# Altium schematic symbol library PCB.SCHLIB: 16 symbols
Pins are listed as number, name and electrical type; pins without a type are passive.

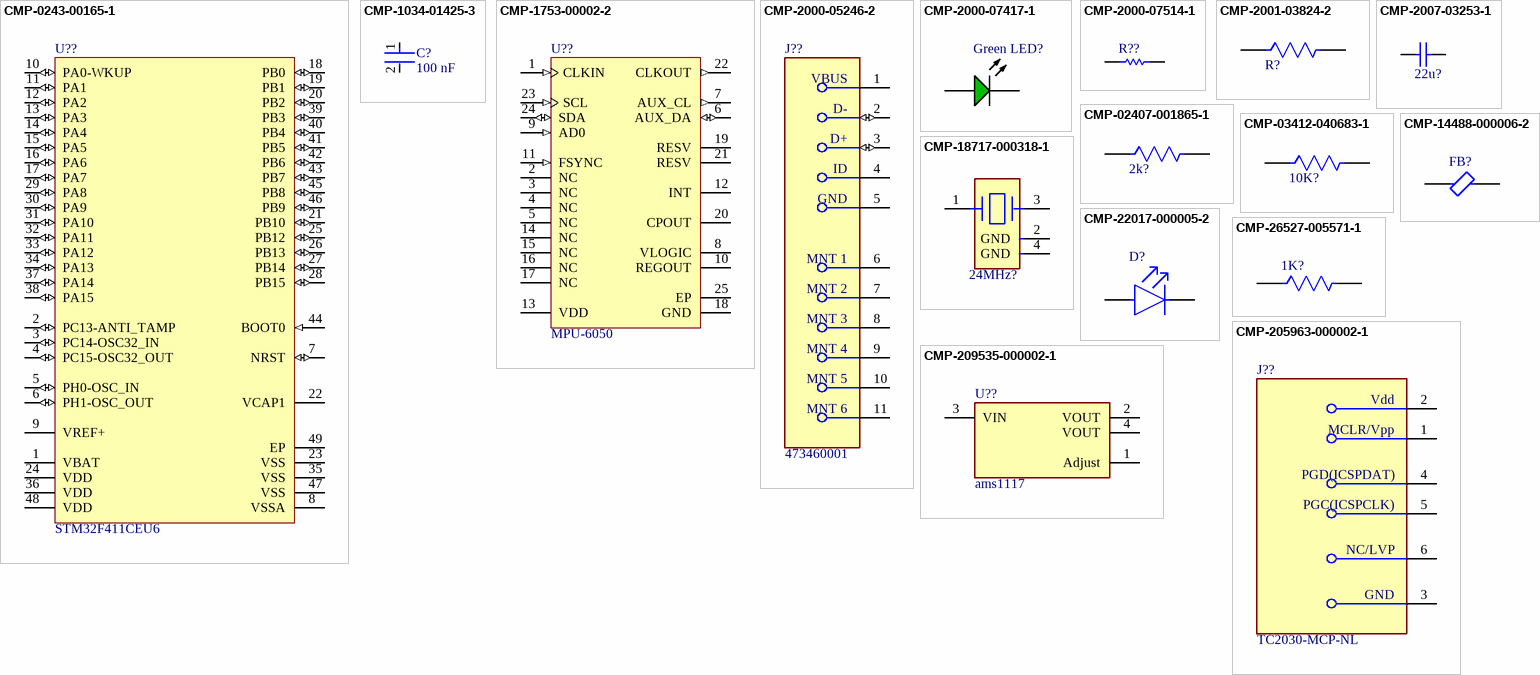
[diagram p0: symbols CMP-0243-00165-1 to CMP-209535-000002-1]

## CMP-0243-00165-1
designator U??, comment STM32F411CEU6
ARM Cortex-M4 32-bit MCU+FPU, 512 KB Flash, 128 KB RAM, 36 I/Os, 48-Pin UFQFPN, -40 to 85 degC, Tray; Operating Frequency(F) (Processor speed) (MHz): 100; FLASH Size (Prog) (kB): 512; Internal RAM Size (kB): 128; I/Os (High Current): 36; Supply Voltage(Vcc) min (V): 1.7; Package Reference: 48-Pin Ultra Thin Fine Pitch Quad Flat No-Lead, 7 x 7 x 0.6 mm Body, 0.5 mm Pitch, Exposed Pad; ComponentLink1Description: Manufacturer URL; ComponentLink1URL: http://www.st.com/; Packing: Tray; Package Description: UFQFPN48; Core: ARM Cortex-M4; ComponentLink2Description: Datasheet; ComponentLink2URL: http://www.st.com/st-web-ui/static/active/en/resource/technical/document/datasheet/DM00115249.pdf; DatasheetVersion: Rev. 6; Mounting Technology: Surface Mount
footprint STM-UFQFPN48_L (QFN, 48-Leads, Body 7.1x7.1mm, Pitch 0.5mm, Thermal Pad 5.6x5.6mm, IPC High Density)
footprint STM-UFQFPN48_M (QFN, 48-Leads, Body 7.1x7.1mm, Pitch 0.5mm, Thermal Pad 5.6x5.6mm, IPC Low Density)
footprint STM-UFQFPN48_N (QFN, 48-Leads, Body 7.1x7.1mm, Pitch 0.5mm, Thermal Pad 5.6x5.6mm, IPC Medium Density)
pins: 1 VBAT (power), 2 PC13-ANTI_TAMP (io) "PC13-ANTI_TAMP/RTC_AMP1,RTC_OUT,RTC_TS", 3 PC14-OSC32_IN (io) "PC14-OSC32_IN/OSC32_IN", 4 PC15-OSC32_OUT (io) "PC15-OSC32_OUT/OSC32_OUT", 5 PH0-OSC_IN (io) "PH0-OSC_IN/OSC_IN", 6 PH1-OSC_OUT (io) "PH1-OSC_OUT/OSC_OUT", 7 NRST (io) "NRST/EVENTOUT", 8 VSSA (power), 9 VREF+ (power), 10 PA0-WKUP (io) "PA0-WKUP/TIM2_CH1/TIM2_ET,TIM5_CH1,USART2_CTS,EVENTOUT/ADC1_0,WKUP1", 11 PA1 (io) "PA1/TIM2_CH2,TIM5_CH2,SPI4_MOSI/I2S4_SD,USART2_RTS,EVENTOUT/ADC1_1", 12 PA2 (io) "PA2/TIM2_CH3,TIM5_CH3,TIM9_CH1,I2S2_CKIN,USART2_TX,EVENTOUT/ADC1_2", 13 PA3 (io) "PA3/TIM2_CH4,TIM5_CH4,TIM9_CH2,I2S2_MCK,USART2_RX,EVENTOUT/ADC1_3", 14 PA4 (io) "PA4/SPI1_NSS/I2S1_WS,SPI3_NSS/I2S3_WS,USART2_CK,EVENTOUT/ADC1_4", 15 PA5 (io) "PA5/TIM2_CH1/TIM2_ET,SPI1_SCK/I2S1_CK,EVENTOUT/ADC1_5", 16 PA6 (io) "PA6/TIM1_BKIN,TIM3_CH1,SPI1_MISO,I2S2_MCK,SDIO_CMD,EVENTOUT/ADC1_6", 17 PA7 (io) "PA7/TIM1_CH1N,TIM3_CH2,SPI1_MOSI/I2S1_SD,EVENTOUT/ADC1_7", 18 PB0 (io) "PB0/TIM1_CH2N,TIM3_CH3,SPI5_SCK/I2S5_CK,EVENTOUT/ADC1_8", 19 PB1 (io) "PB1/TIM1_CH3N,TIM3_CH4,SPI5_NSS/I2S5_WS,EVENTOUT/ADC1_9", 20 PB2 (io) "PB2/EVENTOUT/BOOT1", 21 PB10 (io) "PB10/TIM2_CH3,I2C2_SCL,SPI2_SCK/I2S2_CK,I2S3_MCK,SDIO_D7,EVENTOUT", 22 VCAP1, 23 VSS (power), 24 VDD (power), 25 PB12 (io) "PB12/TIM1_BKIN,I2C2_SMBA,SPI2_NSS/I2S2_WS,SPI4_NSS/I2S4_WS,SPI3_SCK/I2S3_CK,EVENTOUT", 26 PB13 (io) "PB13/TIM1_CH1N,SPI2_SCK/I2S2_CK,SPI4_SCK/I2S4_CK,EVENTOUT", 27 PB14 (io) "PB14/TIM1_CH2N,SPI2_MISO,I2S2EXT_SD,SDIO_D6,EVENTOUT", 28 PB15 (io) "PB15/RTC_50HZ,TIM1_CH3N,SPI2_MOSI/I2S2_SD,SDIO_CK,EVENTOUT/RTC_REFIN", 29 PA8 (io) "PA8/MCO_1,TIM1_CH1,I2C3_SCL,USART1_CK,USB_FS_SOF,SDIO_D1,EVENTOUT", 30 PA9 (io) "PA9/TIM1_CH2,I2C3_SMBA,USART1_TX,USB_FS_VBUS,SDIO_D2,EVENTOUT/OTG_FS_VBUS", 31 PA10 (io) "PA10/TIM1_CH3,SPI5_MOSI/I2S5_SD,USART1_RX,USB_FS_ID,EVENTOUT", 32 PA11 (io) "PA11/TIM1_CH4,SPI4_MISO,USART1_CTS,USART6_TX,USB_FS_DM,EVENTOUT", 33 PA12 (io) "PA12/TIM1_ETR,SPI5_MISO,USART1_RTS,USART6_RX,USB_FS_DP,EVENTOUT", 34 PA13 (io) "PA13/JTMS-SWDIO,EVENTOUT", 35 VSS (power), 36 VDD (power), 37 PA14 (io) "PA14/JTCK-SWCLK,EVENTOUT", 38 PA15 (io) "PA15/JTDI,TIM2_CH1/TIM2_ETR,SPI1_NSS/I2S1_WS,SPI3_NSS/I2S3_WS,USART1_TX,EVENTOUT", 39 PB3 (io) "PB3/JTDO-SWO,TIM2_CH2,SPI1_SCK/I2S1_CK,SPI3_SCK/I2S3_CK,USART1_RX,I2C2_SDA,EVENTOUT", 40 PB4 (io) "PB4/JTRST,TIM3_CH1,SPI1_MISO,SPI3_MISO,I2S3EXT_SD,I2C3_SDA,SDIO_D0,EVENTOUT", 41 PB5 (io) "PB5/TIM3_CH2,I2C1_SMBA,SPI1_MOSI/I2S1_SD,SPI3_MOSI/I2S3_SD,SDIO_D3,EVENTOUT", 42 PB6 (io) "PB6/TIM4_CH1,I2C1_SCL,USART1_TX,EVENTOUT", 43 PB7 (io) "PB7/TIM4_CH2,I2C1_SDA,USART1_RX,SDIO_D0,EVENTOUT", 44 BOOT0 (in) "BOOT0/VPP", 45 PB8 (io) "PB8/TIM4_CH3,TIM10_CH1,I2C1_SCL,SPI5_MOSI/I2S5_SD,I2C3_SDA,SDIO_D4,EVENTOUT", 46 PB9 (io) "PB9/TIM4_CH4,TIM11_CH1,I2C1_SDA,SPI2_NSS/I2S2_WS,I2C2_SDA,SDIO_D5,EVENTOUT", 47 VSS (power), 48 VDD (power), 49 EP (power)

## CMP-1034-01425-3
designator C?, comment 100 nF
Capacitor, Ceramic, 330Pf, 16Vdc, 10-% Tol, 10+% Tol, X7r-Tc Code, -15, 15%-Tc Rohs Compliant: Yes; Manufacturer Part Number: C0402C331K4RACTU; Manufacturer: Kemet; Voltage Rating: 16 V; Temperature Characteristic: X7R; Tolerance: 0.1; Temperature Coefficient: 15%; Description: C0402 330 pF X7R 10.00% 16 V; Category: Cap; ComponentLink2Description: Datasheet; Lead Free: Yes; Mouser Description: Multilayer Ceramic Capacitors MLCC - SMD/SMT 16volts 330pF X7R 10%; Capacitance: 100 nF; Ipc Land Pattern Name: CAPC10050X50; Temperature Range High: +125°C; Temperature: -55°C to +125°C; Digikey Description: Capacitor, Ceramic, 330Pf, 16Vdc, 10-% Tol, 10+% Tol, X7r-Tc Code, -15, 15%-Tc Rohs Compliant: Yes; Automotive: No; Package: C0402-BB; Height: 0.55mm; Material: Ceramic; ComponentLink2URL: https://content.kemet.com/datasheets/KEM_C1002_X7R_SMD.pdf; Device Class L1: Passive Components; Temperature Range Low: -55°C; Value: 100 nF; Device Class L3: Ceramic Capacitors; Device Class L2: Capacitors; Octopart: https://octopart.com/c0402c331k4ractu-kemet-9139363; RoHS: TRUE; Parameter 1: *
footprint FP-C0402-BB-MFG
footprint FP-C0402-BB-IPC_C
footprint FP-C0402-BB-IPC_B
footprint FP-C0402-BB-IPC_A
pins: 1, 2

## CMP-1753-00002-2
designator U??, comment MPU-6050
3-Axis Gyroscope, Accelerometer and a Digital Motion Processor(TM) (DMP), 2.375 to 3.46 V, -40 to 85 degC, 24-Pin QFN, RoHS, Tape and Reel; Manufacturer: InvenSense; Featured Product: MPU-60506-Axis,IntegratedI²CSolution; Other Names: 1428-1007-2 / MPU6050; Sensor Type: MotionTracking; Online Catalog: MPU-6000™Series; Unit PriceUSD: Digital; Datasheet Version: Rev. 3.3, 05/2012; Category: Sensors,Transducers; Datasheet URL: http://datasheet.octopart.com/MPU-6050-InvenSense-datasheet-14421344.pdf; Family: Multifunction; Standard Package: 5,000; Manufacturer URL: http://www.invensense.com/; Output Type: Digital; Dynamic Catalog: MPU-6000™Series
footprint IS-QFN-24_V (QFN, 24-Leads, Body 4x4mm, Pitch 0.5mm, Thermal Pad 2.7x2.6mm)
pins: 1 CLKIN (in) "Optional external reference clock input. Connect to GND if unused.", 2 NC "Not internally connected. May be used for PCB trace routing", 3 NC "Not internally connected. May be used for PCB trace routing", 4 NC "Not internally connected. May be used for PCB trace routing", 5 NC "Not internally connected. May be used for PCB trace routing", 6 AUX_DA (io) "I2C master serial data, for connecting to external sensors", 7 AUX_CL (out) "I2C Master serial clock, for connecting to external sensors", 8 VLOGIC (power) "Digital I/O supply voltage", 9 AD0 (in) "I2C Slave Address LSB (AD0)", 10 REGOUT "Regulator filter capacitor connection", 11 FSYNC (in) "Frame synchronization digital input. Connect to GND if unused.", 12 INT (oc) "Interrupt digital output (totem pole or open-drain)", 13 VDD (power) "Power supply voltage and Digital I/O supply voltage", 14 NC "Not internally connected. May be used for PCB trace routing", 15 NC "Not internally connected. May be used for PCB trace routing", 16 NC "Not internally connected. May be used for PCB trace routing", 17 NC "Not internally connected. May be used for PCB trace routing", 18 GND (power) "Power supply ground", 19 RESV "Reserved. Do not connect", 20 CPOUT "Charge pump capacitor connection", 21 RESV "Reserved. Do not connect", 22 CLKOUT (out) "System clock output", 23 SCL (in) "System clock output  I2C serial clock (SCL)", 24 SDA (io) "I2C serial data (SDA)", 25 EP (power) "Exposed Pad"

## CMP-2000-05246-2
designator J??, comment 473460001
CONN RCPT USB2.0 MICRO B SMD R/A; Manufacturer: Molex; Conn Orientation: Right Angle; Is Female: yes; Shielding: true; Pitch: 0.65mm; Number Of Contacts: 5; Description: USB - micro B USB 2.0 Receptacle Connector 5 Position Surface Mount, Right Angle; Voltage Rating: 30V; Current Rating: 1.8A; Device Class L2: USB Connectors; Digikey Description: CONN RCPT USB2.0 MICRO B SMD R/A; Height: 2.945mm; RoHS: TRUE; ComponentLink2Description: Datasheet; Octopart: https://octopart.com/47346-0001-molex-7164928; Automotive: No; Package: 0; Category: Conn; Device Class L1: Connectors; Usb Standard: USB 2.0; Temperature: -30°C to +85°C; Temperature Range Low: -30°C; Footprint Url: https://www.molex.com/pdm_docs/sd/473460001_sd.pdf; ComponentLink2URL: https://www.molex.com/webdocs/datasheets/pdf/en-us/0473460001_IO_CONNECTORS.pdf; Lead Free: Yes; Manufacturer Part Number: 473460001; Contact Material: Gold,Nickel; Temperature Range High: +85°C; Device Class L3: unset
footprint FP-473460001-MFG
pins: 1 VBUS (power), 2 D- (io), 3 D+ (io), 4 ID, 5 GND (power), 6 MNT 1, 7 MNT 2, 8 MNT 3, 9 MNT 4, 10 MNT 5, 11 MNT 6

## CMP-2000-07417-1
designator Green LED?, comment WP934CB/GD  (value not drawn)
Right Angle LED Indicator, 62.5 mW, 25 mA, -40 to 85 degC, 2-Pin THD, RoHS, Bulk; Manufacturer: Kingbright; Voltage Rating: 2.2V; Configuration: Single; Other Names: 754-1297 / WP934CBGD; Lens Style/Size: RoundwithDomedTop,3mm; Catalog Drawings: WP934CBSeriesFront / WP934CBSeriesSide; Millicandela Rating: 22.5mcd; Minimum Quantity: Green; 3D Model: WP934CB/x.sldprt / WP934CB/x.pro / WP934CB/x.igs / WP934CB/x.stp; Wavelength - Peak: 568nm; Lens Type: Diffused,Tinted; Dynamic Catalog: SingleLevel3mm(T1)SingleColorRightAngleLEDs; Viewing Angle: 40°; Current: 20mA; Packaging: Bulk; Package Reference: WP934CBGD; Datasheet Version: Rev. 10B, 09/2016; Family: LEDs-CircuitBoardIndicators,Arrays,LightBars,BarGraphs; Manufacturer URL: http://www.kingbright.com/; Standard Package: 500; Mounting Technology: ThroughHole; Quantity Available: Bulk; Category: Optoelectronics; Color: Green; Package Description: 2-Pin Through Hole Device, Body 4.6 x 8.75 mm; Mounting Type: ThroughHole,RightAngle; Datasheet URL: http://www.kingbrightusa.com/images/catalog/SPEC/WP934CB-GD.pdf
footprint KING-WP934CBGD_V (THD, 2-Leads, Body 4.6x8.75mm)
pins: 1 K, 2 A

## CMP-2000-07514-1
designator R??, comment CRG0805ZR  (value not drawn)
Chip Resistor, 0 Ohm, 0.125 W, -55 to 125 degC, 0805 (2012 Metric), RoHS, Tape and Reel; Manufacturer: TE Connectivity; Power Rating: 125mW; Voltage Rating: 150V; Tolerance: 0%; Case\/Package: 0805; Number of Resistors: 1; Resistance: 0mOhm; Datasheet URL: www.te.com/commerce/DocumentDelivery/DDEController?Action=showdoc&DocId=Customer+Drawing%7F1623401%7FBA%7Fpdf%7FEnglish%7FENG_CD_1623401_BA.pdf%7F1623401-1; Composition: ThickFilm; Max Operating Temperature: 125degC; Min Operating Temperature: -55degC; ELV: Compliant; Case Code (Metric): 2012; Number of Terminations: 2; Weight: 0.000194oz; Length: 2mm; Mount: SurfaceMount; Packaging: TapeandReel; Case Code (Imperial): 0805; RoHSCompliant: true; Width: 1.25mm; Radiation Hardening: No; Termination: Solder; Manufacturer URL: http://www.te.com/; Package Description: 2-Pin Surface Mount Device, Body 2 x 1.25 mm; Mounting Technology: SurfaceMount; Height: 0.55mm; Package Quantity: 5000; Package Reference: RESC2013X65X40L15T20; Datasheet Version: Rev. BA, 12/2009; Depth: 1.25mm
footprint RESC2013X65X40LL15T20 (Chip Resistor, 2-Leads, Body 2.00x1.30mm, IPC High Density)
footprint RESC2013X65X40ML15T20 (Chip Resistor, 2-Leads, Body 2.00x1.30mm, IPC Low Density)
footprint RESC2013X65X40NL15T20 (Chip Resistor, 2-Leads, Body 2.00x1.30mm, IPC Medium Density)
pins: 1, 2

## CMP-2001-03824-2
designator R?, comment CRCW0805330RJNEA  (value not drawn)
RES Thick Film, 330Ω, 5%, 0.125W, 200ppm/°C, 0805; Power Rating: 125mW; Voltage Rating (DC): 150V; Resistance: 330R; Case Code (Imperial): 0805; Temperature Coefficient: 200ppm/°C; Military Standard: Not; Tolerance: 5%; Max Power Dissipation: 125mW; Composition: Thick Film; Height: 0.02inch; Depth: 1.25mm; Termination: SMD/SMT; Voltage Rating: 150V; Max Operating Temperature: 155°C; Min Operating Temperature: -55°C; Number of Terminations: 2; Packaging: Tape and Reel; Radiation Hardening: No; Case/Package: 0805; Lead Free: Lead Free; Package Quantity: 1; Contact Plating: Tin; Length: 2mm; Case Code (Metric): 2012; Features: Automotive AEC-Q200; Weight: 0.000194oz; Width: 0.049inch
footprint FP-CRCW0805-e3-IPC_C
footprint FP-CRCW0805-e3-MFG
footprint FP-CRCW0805-e3-IPC_B
footprint FP-CRCW0805-e3-IPC_A
pins: 1, 2

## CMP-2007-03253-1
designator 22u?, comment C0805C185K4RACTU  (value not drawn)
Manufacturer: Kemet; Part Number: C0805C185K4RACTU
footprint CAPC2013X140X50NL20T25 (Chip Capacitor, 2-Leads, Body 2.00x1.25mm, IPC Medium Density)
footprint CAPC2013X140X50ML20T25 (Chip Capacitor, 2-Leads, Body 2.00x1.25mm, IPC Low Density)
footprint CAPC2013X140X50LL20T25 (Chip Capacitor, 2-Leads, Body 2.00x1.25mm, IPC High Density)
pins: 1, 2
1 alternate drawing of the same symbol

## CMP-02407-001865-1
designator 2k?, comment MCU08050D2201BP500  (value not drawn)
RES 1.05K OHM 0.5% 1/5W 0805; Resistance: 2.2kR; Tolerance: 0.1%; Temperature Coefficient: 25ppm/°C; Max Power Dissipation: 125mW; Package Quantity: 5000; Packaging: Tape and Reel; Min Operating Temperature: -55°C; Military Standard: Not; Number of Terminations: 2; Max Operating Temperature: 125°C; Height: 0.022inch; Depth: 1.25mm; Composition: Thin Film; Width: 0.049inch; Case/Package: 0805; Length: 0.079inch; Lead Free: Lead Free
footprint FP-MCU0805-MFG
footprint FP-MCU0805-IPC_B
footprint FP-MCU0805-IPC_A
footprint FP-MCU0805-IPC_C
pins: 1, 2

## CMP-03412-040683-1
designator 10K?, comment AC0603JR-7W10KL  (value not drawn)
RES 10kΩ 5.00% 0.2W 0603
footprint FP-AC0603-IPC_A
footprint FP-AC0603-MFG
footprint FP-AC0603-IPC_C
footprint FP-AC0603-IPC_B
pins: 1, 2

## CMP-14488-000006-2
designator FB?, comment FBMH1608HM101-TV  (value not drawn)
None; Max Current Rating: 2.5A; DC Resistance (DCR): 35mR; Number of Lines: 1; Tolerance: 25%; Impedance: 100R; Test Frequency: 100MHz; Core Material: Ferrite; Max DC Current: 2A; Case Code (Metric): 1608; RoHS Compliant: Yes; Weight: 7.1E-05oz; Height: 0.8mm; Mount: Surface Mount; Ratings: AEC-Q200; Width: 0.031inch; Length: 0.063inch; Package Quantity: 4000; Termination: SMD/SMT; Case/Package: 0603; Packaging: Tape and Reel; Max Operating Temperature: 125°C; Case Code (Imperial): 0603; Min Operating Temperature: -40°C
footprint FP-FBMH1608-IPC_A
footprint FP-FBMH1608-IPC_B
footprint FP-FBMH1608-IPC_C
footprint FP-FBMH1608-MFG
pins: 1, 2

## CMP-18717-000318-1
designator 24MHz?, comment 7M-24.000MEEQ-T  (value not drawn)
Crystal 24MHz, 10ppm, 10pF, 50Ω; ESR (Equivalent Series Resistance): 60R; Lead Free: Lead Free; Packaging: Tape and Reel; Length: 3.2mm; Frequency: 24MHz; Load Capacitance: 10pF; REACH SVHC: No SVHC; Width: 0.098inch; Height: 0.031inch; Tolerance: 10ppm; Frequency Stability: 10ppm; Min Operating Temperature: -20°C; Max Operating Temperature: 70°C; Frequency Tolerance: 10ppm; Number of Pins: 4; Mount: Surface Mount; Termination: SMD/SMT; Case/Package: SMD/SMT; Package Quantity: 3000; Depth: 2.5mm; Series: 7M
footprint FP-7M-MFG
pins: 1, 2 GND (power), 3, 4 GND (power)

## CMP-22017-000005-2
designator D?, comment LTST-C190GKT  (value not drawn)
LED GREEN CLEAR CHIP SMD; Dominant Wavelength: 569nm; Reverse Voltage: 5V; Lens Color: Colorless; Viewing Angle: 130°; Voltage: 2V; Forward Current: 30mA; Power Dissipation: 100mW; Luminous Intensity: 6mcd; Number of LEDs: 1; Forward Voltage: 2.1V; Wavelength: 565nm; Test Current: 10mA; Min Operating Temperature: -55°C; Lens Style: Clear; Mount: Surface Mount; Width: 0.8mm; Packaging: Tape and Reel; Lens Transparency: Clear; Case Code (Metric): 1608; Depth: 0.8mm; Case Code (Imperial): 0603; Case/Package: 0603; Number of Pins: 2; Max Operating Temperature: 85°C; Lead Free: Lead Free; Number of Elements: 1; Length: 1.6mm; Height: 0.8mm; Package Quantity: 1; Power Rating: 100mW; Radiation Hardening: No; Illumination Color: Green; Color: Green
footprint FP-LTST-C190GKT-MFG
pins: 1 C, 2 A

## CMP-26527-005571-1
designator 1K?, comment RMCF1206FG1K00  (value not drawn)
1kΩ ±1% 0.25W 1206 Thick Film Chip Resistor AEC-Q200 compliant; Resistance: 1kR; Temperature Coefficient: 100ppm/°C; Max Power Dissipation: 250mW; Max Operating Temperature: 155°C; Contact Plating: Tin; Features: Automotive AEC-Q200; Min Operating Temperature: -55°C; Width: 0.063inch; Packaging: Tape and Reel; Number of Terminations: 2; Height: 0.028inch; Package Quantity: 10000; Series: RMCF; Case/Package: 1206; Radiation Hardening: No; Length: 0.126inch; RoHS Compliant: Yes; Mount: Surface Mount; Tolerance: 1%; Resistor Type: Thick Film
footprint FP-RMCF1206-IPC_C
footprint FP-RMCF1206-IPC_B
footprint FP-RMCF1206-IPC_A
footprint FP-RMCF1206-MFG
pins: 1, 2

## CMP-205963-000002-1
designator J??, comment TC2030-MCP-NL
CABLE TAG-CONNECT IN-CIRCUIT; RoHS Compliant: Yes; Series: -; Reach SVHC Compliant: Yes; Package Quantity: 1; Lead Free: Lead Free
footprint FP-TC2030-MCP-NL-MFG
footprint TC2030-IDC-NL (Tag-Connect 6-Pin with No Legs (PN# TC2030-IDC-NL))
pins: 1 MCLR/Vpp, 2 Vdd, 3 GND, 4 PGD(ICSPDAT), 5 PGC(ICSPCLK), 6 NC/LVP

## CMP-209535-000002-1
designator U??, comment ams1117
1A LOW DROPOUT VOLTAGE REGULATOR; RoHS Compliant: Yes
footprint FP-ams1117-IPC_C
footprint FP-ams1117-IPC_B
footprint FP-ams1117-IPC_A
pins: 1 Adjust, 2 VOUT, 3 VIN (power), 4 VOUT